# Altium schematic symbol library DAC081.SchLib: 1 symbol
Pins are listed as number, name and electrical type; pins without a type are passive.

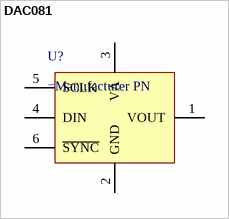
[diagram p0: symbol DAC081]

## DAC081
designator U?
8-bit DAC, SPI interface
pins: 1 VOUT, 2 GND, 3 VA, 4 DIN, 5 SCLK, 6 ~{SYNC}